# EAGLE library part STM32F405RGT6 (library Pygmy)
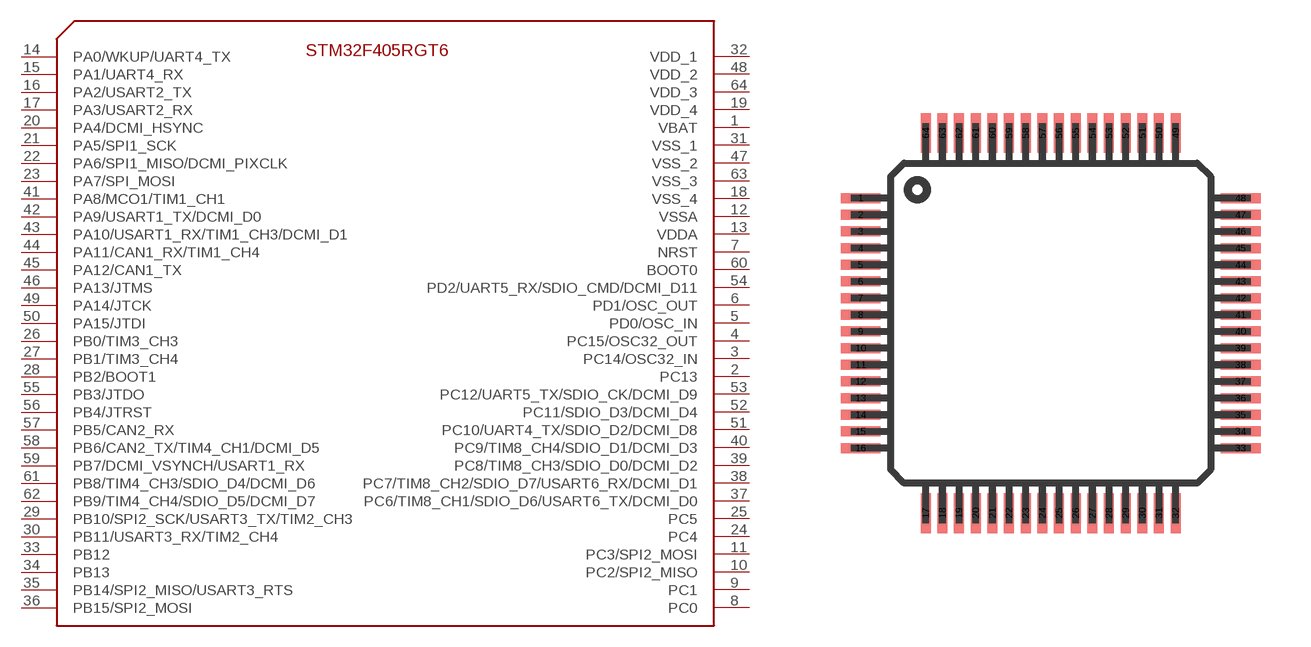
[diagram p62: symbol with the pads of TQFP64; footprint TQFP64]

Designator prefix -

## STM32F405RGT6  [TQFP64]
1  VBAT
2  PC13
3  PC14/OSC32_IN
4  PC15/OSC32_OUT
5  PD0/OSC_IN
6  PD1/OSC_OUT
7  NRST
8  PC0
9  PC1
10  PC2/SPI2_MISO
11  PC3/SPI2_MOSI
12  VSSA
13  VDDA
14  PA0/WKUP/UART4_TX
15  PA1/UART4_RX
16  PA2/USART2_TX
17  PA3/USART2_RX
18  VSS_4
19  VDD_4
20  PA4/DCMI_HSYNC
21  PA5/SPI1_SCK
22  PA6/SPI1_MISO/DCMI_PIXCLK
23  PA7/SPI_MOSI
24  PC4
25  PC5
26  PB0/TIM3_CH3
27  PB1/TIM3_CH4
28  PB2/BOOT1
29  PB10/SPI2_SCK/USART3_TX/TIM2_CH3
30  PB11/USART3_RX/TIM2_CH4
31  VSS_1
32  VDD_1
33  PB12
34  PB13
35  PB14/SPI2_MISO/USART3_RTS
36  PB15/SPI2_MOSI
37  PC6/TIM8_CH1/SDIO_D6/USART6_TX/DCMI_D0
38  PC7/TIM8_CH2/SDIO_D7/USART6_RX/DCMI_D1
39  PC8/TIM8_CH3/SDIO_D0/DCMI_D2
40  PC9/TIM8_CH4/SDIO_D1/DCMI_D3
41  PA8/MCO1/TIM1_CH1
42  PA9/USART1_TX/DCMI_D0
43  PA10/USART1_RX/TIM1_CH3/DCMI_D1
44  PA11/CAN1_RX/TIM1_CH4
45  PA12/CAN1_TX
46  PA13/JTMS
47  VSS_2
48  VDD_2
49  PA14/JTCK
50  PA15/JTDI
51  PC10/UART4_TX/SDIO_D2/DCMI_D8
52  PC11/SDIO_D3/DCMI_D4
53  PC12/UART5_TX/SDIO_CK/DCMI_D9
54  PD2/UART5_RX/SDIO_CMD/DCMI_D11
55  PB3/JTDO
56  PB4/JTRST
57  PB5/CAN2_RX
58  PB6/CAN2_TX/TIM4_CH1/DCMI_D5
59  PB7/DCMI_VSYNCH/USART1_RX
60  BOOT0
61  PB8/TIM4_CH3/SDIO_D4/DCMI_D6
62  PB9/TIM4_CH4/SDIO_D5/DCMI_D7
63  VSS_3
64  VDD_3

## Footprint TQFP64 (pad centres in mm)
smd 1.2 x 0.3: 1 -5.7,3.75; 2 -5.7,3.25; 3 -5.7,2.75; 4 -5.7,2.25; 5 -5.7,1.75; 6 -5.7,1.25; 7 -5.7,0.75; 8 -5.7,0.25; 9 -5.7,-0.25; 10 -5.7,-0.75; 11 -5.7,-1.25; 12 -5.7,-1.75; 13 -5.7,-2.25; 14 -5.7,-2.75; 15 -5.7,-3.25; 16 -5.7,-3.75; 33 5.7,-3.75; 34 5.7,-3.25; 35 5.7,-2.75; 36 5.7,-2.25; 37 5.7,-1.75; 38 5.7,-1.25; 39 5.7,-0.75; 40 5.7,-0.25; 41 5.7,0.25; 42 5.7,0.75; 43 5.7,1.25; 44 5.7,1.75; 45 5.7,2.25; 46 5.7,2.75; 47 5.7,3.25; 48 5.7,3.75
smd 0.3 x 1.2: 17 -3.75,-5.7; 18 -3.25,-5.7; 19 -2.75,-5.7; 20 -2.25,-5.7; 21 -1.75,-5.7; 22 -1.25,-5.7; 23 -0.75,-5.7; 24 -0.25,-5.7; 25 0.25,-5.7; 26 0.75,-5.7; 27 1.25,-5.7; 28 1.75,-5.7; 29 2.25,-5.7; 30 2.75,-5.7; 31 3.25,-5.7; 32 3.75,-5.7; 49 3.75,5.7; 50 3.25,5.7; 51 2.75,5.7; 52 2.25,5.7; 53 1.75,5.7; 54 1.25,5.7; 55 0.75,5.7; 56 0.25,5.7; 57 -0.25,5.7; 58 -0.75,5.7; 59 -1.25,5.7; 60 -1.75,5.7; 61 -2.25,5.7; 62 -2.75,5.7; 63 -3.25,5.7; 64 -3.75,5.7